# Altium footprint library Keystone.PcbLib: 6 footprints
Each footprint in its own frame and in the unit in brackets; x right, y up, seen from the top. Pads: shape width x height; smd on the part's side, far side on the other; paste and mask are expansions set on the pad; w line width, h text height; cw(c..) or ccw(c..) is an arc to the next point about the centre after c.
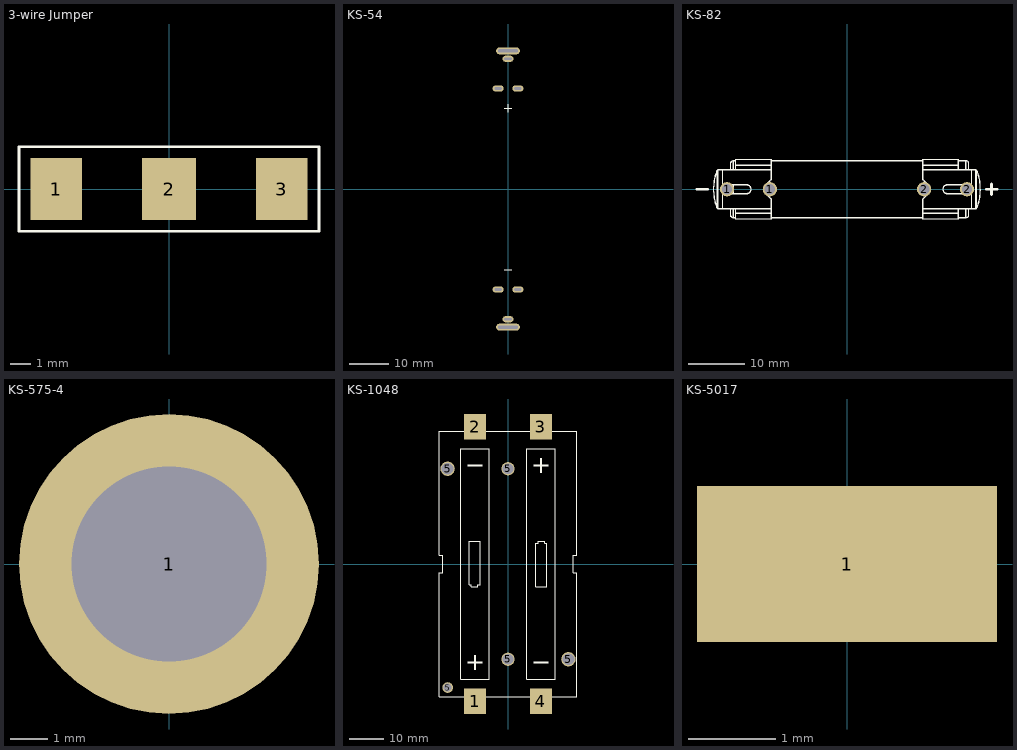
[diagram p0: the footprints below, top view; thin cyan lines are the x and y axes]

## 3-wire Jumper [mil]
pads (3):
  rect 98x118 smd: 1(-214.5,0) 3(214.5,0)
  rect 103x118 smd: 2(0,0)
Top Overlay:
  lines w5: -285,-80 -285,80 285,80 285,-80 -285,-80
Mechanical 15:
  lines w1.97: -285,-80 -285,80 285,80 285,-80 -285,-80
  lines w3.94: -18.7,0 18.7,0 ; 0,-18.7 0,18.7

## KS-54 [mil] "BATTERY CLIP 18MM 18650 CELL"
pads (8):
  oval 112x62 hole 22 slot 72 at 0 deg: 1(-104.73,1020.45) 1(-4.73,1320.45) 1(95.27,1020.45) 2(-104.73,-1011.19) 2(-4.73,-1311.19) 2(95.27,-1011.19)
  oval 240x70 hole 30 slot 200 at 0 deg: 58(-4.73,-1391.04) 58(-4.73,1400.29)
Top Overlay:
  lines w10: -44.73,-811.19 35.27,-811.19 ; -44.73,820.45 35.27,820.45 ; -4.73,780.45 -4.73,860.45
3D body: height 10, standoff -295.28, extent 945,-1305 945,-1305
3D body: height 10, standoff -295.28, extent 1055,1286.64 1055,1286.64
3D body "batteryclips.STEP": height 787.05, standoff -120, extent -376.54,-1453.32 367.08,1462.58

## KS-82 [mil] "CLIP BATT AAA/N .375X.460\""
height 492.13
pads (4):
  round 100 hole 73: 1(-840,0) 1(-540,0) 2(540,0) 2(840,0)
Top Overlay:
  drawing of 1581 lines, arcs and shapes, not listed
3D body "User Library-AAA Battery and KeyStone PCB Clips.STEP": height 500.25, standoff -129.42, extent -936.88,-208.36 936.88,208.36

## KS-575-4 [mm]
pads (1):
  round 8 hole 5.2: 1(0,0)

## KS-1048 [mil] "DUAL SM BATTERY HOLDER 18650"
height 585
pads (9):
  rect 250x289 smd: 1(-376.5,-1568) 2(-376.5,1568) 3(376.5,1568) 4(376.5,-1568)
  round 121.65 hole 94: 5(-689.5,-1410.5)
  round 163.39 hole 136: 5(-689.5,1087.5) 5(689.5,-1087.5)
  round 152.36 hole 125: 5(0,-1087.5) 5(0,1087.5)
Top Overlay:
  region: -389,-1037.5 -389,-1212.5 -364,-1212.5 -364,-1037.5
  rectangle: -464,-1137.5 -289,-1112.5
  region: 464,-1112.5 289,-1112.5 289,-1137.5 464,-1137.5
  region: 389,1037.5 389,1212.5 364,1212.5 364,1037.5
  region: 464,1137.5 289,1137.5 289,1112.5 464,1112.5
  rectangle: -464,1112.5 -289,1137.5
  lines w10: -783,-1517 783,-1517 783,-100.15 743,-100.15 743,100.15 783,100.15 783,1517 -783,1517 -783,100.15 -743,100.15 -743,-100.15 -783,-100.15 -783,-1517 ; -539,-1316 -539,1316 -214,1316 -214,-1316 -539,-1316 ; -444,-237.5 -444,262.5 -319,262.5 -319,-237.5 -344,-237.5 -344,-262.5 -419,-262.5 -419,-237.5 -444,-237.5 ; 214,-1316 539,-1316 539,1316 214,1316 214,-1316 ; 319,-262.5 444,-262.5 444,237.5 419,237.5 419,262.5 344,262.5 344,237.5 319,237.5 319,-262.5
3D body "KS-1048.STEP": height 586.73, standoff -135.27, extent -783,-1692 783,1692

## KS-5017 [mil] "Testpoint Lug Mini SMD 27X10X152"
height 60
pads (1):
  rect 135x70 smd: 1(0,0)
3D body "User Library-Keystone_5017.step": height 59.84, standoff 0, extent -53.27,-20.07 53.31,20.09